# EAGLE library part DRV8833C (library Cerebro-library)
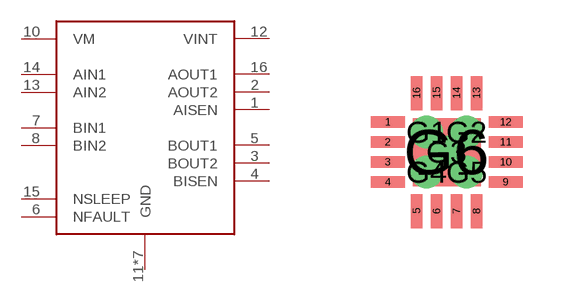
[diagram p9: symbol with the pads of QFN_16PIN_3X3; footprint QFN_16PIN_3X3]

Designator prefix -

## DRV8833C  [QFN_16PIN_3X3]
1  AISEN
2  AOUT2
3  BOUT2
4  BISEN
5  BOUT1
6  NFAULT
7  BIN1
8  BIN2
10  VM
11  GND
12  VINT
13  AIN2
14  AIN1
15  NSLEEP
16  AOUT1
G1  GND
G2  GND
G3  GND
G4  GND
G5  GND
G6  GND

## Footprint QFN_16PIN_3X3 (pad centres in mm)
smd 0.85 x 0.28: 1 -1.475,0.75; 2 -1.475,0.25; 3 -1.475,-0.25; 4 -1.475,-0.75; 9 1.475,-0.75; 10 1.475,-0.25; 11 1.475,0.25; 12 1.475,0.75
smd 0.28 x 0.85: 5 -0.75,-1.475; 6 -0.25,-1.475; 7 0.25,-1.475; 8 0.75,-1.475; 13 0.75,1.475; 14 0.25,1.475; 15 -0.25,1.475; 16 -0.75,1.475
drill 0.3 pad 0.406: G1 -0.5,0.5; G2 0.5,0.5; G3 0,0; G4 -0.5,-0.5; G5 0.5,-0.5
smd 1.7 x 1.7: G6 0,0